# Altium footprint library PCB - PASSIVES - IND 0603_1608 RF WW.PCBLIB: 1 footprints
Each footprint in its own frame and in the unit in brackets; x right, y up, seen from the top. Pads: shape width x height; smd on the part's side, far side on the other; paste and mask are expansions set on the pad; w line width, h text height; cw(c..) or ccw(c..) is an arc to the next point about the centre after c.
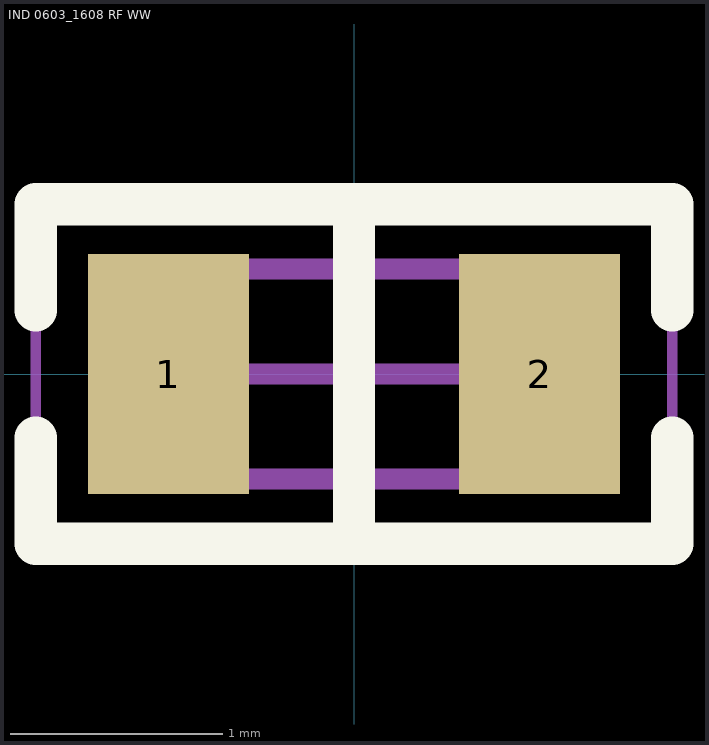
[diagram p0: the footprint, top view; thin cyan lines are the x and y axes]

## IND 0603_1608 RF WW [mm] "Chip Inductor, 2-Leads, Body 1.65x0.99mm, IPC Medium Density"
height 1
pads (2):
  rect 0.76x1.13 smd: 1(-0.875,0) 2(0.875,0)
Top Overlay:
  lines w0.2: -1.5,-0.3 -1.5,-0.8 1.5,-0.8 1.5,-0.3 ; -1.5,0.3 -1.5,0.8 1.5,0.8 1.5,0.3 ; 0,-0.8 0,0.8
Mechanical 13:
  lines w0.1: -0.825,-0.495 -0.825,0.495 0.825,0.495 0.825,-0.495 -0.825,-0.495
Mechanical 15:
  lines w0.05: -1.5,-0.85 -1.5,0.85 1.5,0.85 1.5,-0.85 -1.5,-0.85
  lines w0.1: -0.495,0 0.495,0 ; 0,-0.495 0,0.495
3D body "INDUC - 0603_1608 v4.step": height 0.79, standoff 0, extent -0.835,-0.536 0.835,0.55
3D body "INDUC - 0603_1608 v4.1.step": height 1, standoff 0.67, extent -0.835,-0.58 0.835,0.58